# EAGLE library part MOLEX_90130_2X05 (library df4iah_connector)
Header 2X5 2.54mm Molex 90130 series
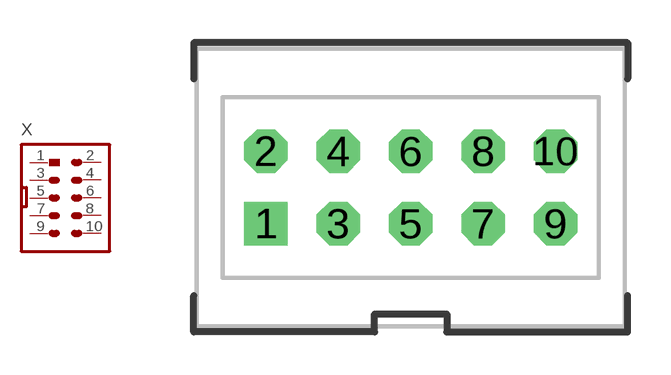
[diagram p15: symbol with the pads of MOLEX_90130_2X05; footprint MOLEX_90130_2X05]

Designator prefix X

## MOLEX_90130_2X05  [MOLEX_90130_2X05]
1  1  pas
2  2  pas
3  3  pas
4  4  pas
5  5  pas
6  6  pas
7  7  pas
8  8  pas
9  9  pas
10  10  pas

## Footprint MOLEX_90130_2X05 (pad centres in mm)
Header 2X5 2.54mm Molex 90130 series
drill 1.016 square: 1 -5.08,-1.27
drill 1.016 octagon: 2 -5.08,1.27; 3 -2.54,-1.27; 4 -2.54,1.27; 5 0,-1.27; 6 0,1.27; 7 2.54,-1.27; 8 2.54,1.27; 9 5.08,-1.27; 10 5.08,1.27